# EAGLE library part LPC1112FDH20 (library nxp_60)
LPC1112 50 MHz 32-bit ARM Cortex-M0 based microcontroller featuring a high level of integration and very low power consumption. On-chip flash program memory The LPC1110/11/12/13/14 contain 32 kB (LPC1114), 24 kB (LPC1113), 16 kB (LPC1112), 8 kB (LPC1111),or 4 kB (LPC1110) of on-chip flash memory. On-chip SRAM The LPC1110/11/12/13/14 contain a total of 8 kB, 4 kB, 2 kB, or 1 kB on-chip static RAM memory. MK - Datasheet available on www.nxp.com
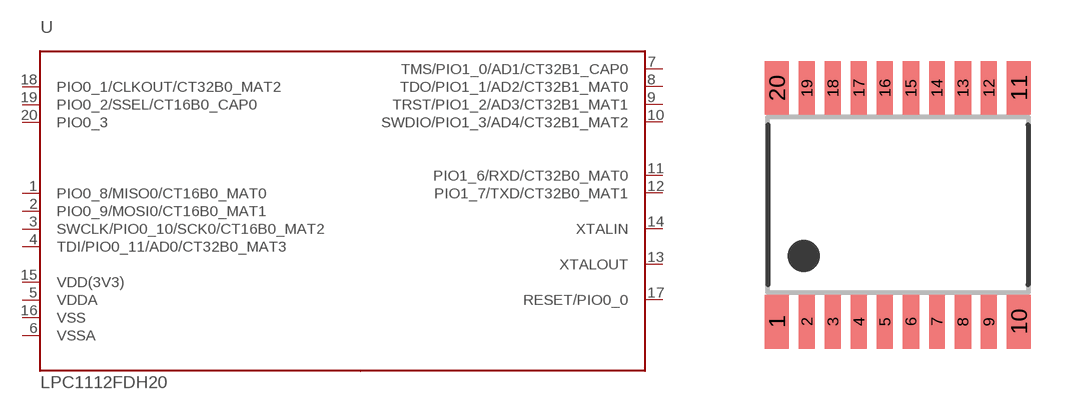
[diagram p56: symbol with the pads of SOT360; footprint SOT360]

Designator prefix -

## LPC1112FDH20  [SOT360]
1  PIO0_8/MISO0/CT16B0_MAT0
2  PIO0_9/MOSI0/CT16B0_MAT1
3  SWCLK/PIO0_10/SCK0/CT16B0_MAT2
4  TDI/PIO0_11/AD0/CT32B0_MAT3
5  VDDA  pwr
6  VSSA  pwr
7  TMS/PIO1_0/AD1/CT32B1_CAP0
8  TDO/PIO1_1/AD2/CT32B1_MAT0
9  TRST/PIO1_2/AD3/CT32B1_MAT1
10  SWDIO/PIO1_3/AD4/CT32B1_MAT2
11  PIO1_6/RXD/CT32B0_MAT0
12  PIO1_7/TXD/CT32B0_MAT1
13  XTALOUT  out
14  XTALIN  in
15  VDD(3V3)  pwr
16  VSS  pwr
17  RESET/PIO0_0
18  PIO0_1/CLKOUT/CT32B0_MAT2
19  PIO0_2/SSEL/CT16B0_CAP0
20  PIO0_3

## Footprint SOT360 (pad centres in mm)
SOT360 TSSOP20: plastic thin shrink small outline package; 20 leads; body width 4.4 mm JEDEC: MO-153 IEC:
smd 0.6 x 1.35: 1 -3.025,-2.925; 10 3.025,-2.925; 11 3.025,2.925; 20 -3.025,2.925
smd 0.4 x 1.35: 2 -2.275,-2.925; 3 -1.625,-2.925; 4 -0.975,-2.925; 5 -0.325,-2.925; 6 0.325,-2.925; 7 0.975,-2.925; 8 1.625,-2.925; 9 2.275,-2.925; 12 2.275,2.925; 13 1.625,2.925; 14 0.975,2.925; 15 0.325,2.925; 16 -0.325,2.925; 17 -0.975,2.925; 18 -1.625,2.925; 19 -2.275,2.925